# Altium footprint library PCB - LED - Everlight 1414_3535.PCBLIB: 1 footprints
Each footprint in its own frame and in the unit in brackets; x right, y up, seen from the top. Pads: shape width x height; smd on the part's side, far side on the other; paste and mask are expansions set on the pad; w line width, h text height; cw(c..) or ccw(c..) is an arc to the next point about the centre after c.
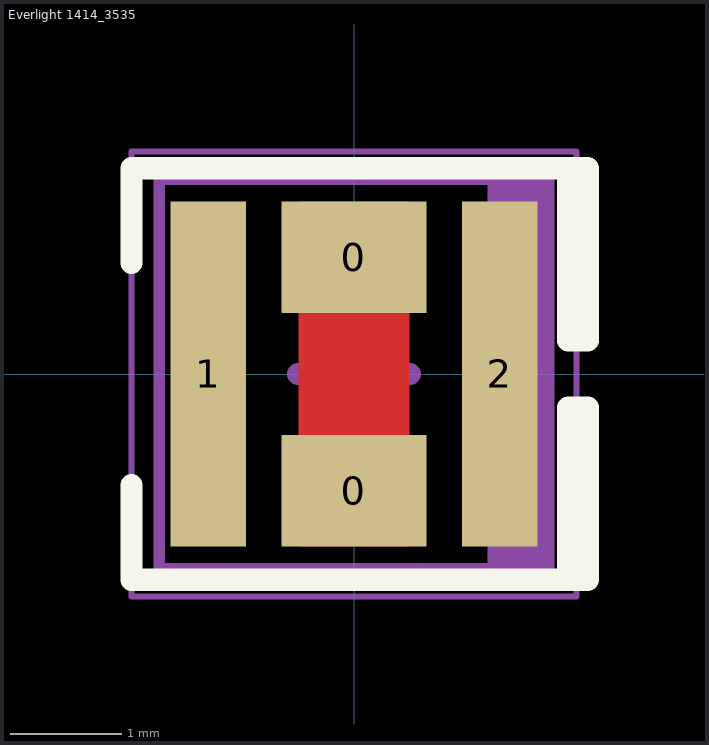
[diagram p0: the footprint, top view; thin cyan lines are the x and y axes]

## Everlight 1414_3535 [mm] "1414 (3535 Metric), 2-Leads, Body 3.5x3.5mm"
height 3.51
pads (4):
  rect 1.3x1 smd mask+0: 0(0,-1.05) 0(0,1.05)
  rect 0.68x3.1 smd mask+0: 1(-1.31,0)
  rect 0.68x3.1 smd paste+0 mask+0: 2(1.31,0)
Top Layer:
  rectangle: -0.5,-1.55 0.5,1.55
Top Overlay:
  lines w0.2: -2,-1 -2,-1.85 2.1,-1.85 2.1,-0.3 1.926,-0.3 1.926,-1.8 ; -2,1 -2,1.85 2.1,1.85 2.1,0.3 1.926,0.3 1.926,1.8
Top Solder:
  region: -0.95,1.65 -1.75,1.65 -1.75,-1.65 -0.95,-1.65
  rectangle: 0.95,-1.65 1.75,1.65
  rectangle: -0.75,-1.65 0.75,1.65
Mechanical 13:
  region: 1.75,1.75 1.2,1.75 1.2,-1.75 1.75,-1.75
  lines w0.1: -1.75,-1.75 1.75,-1.75 1.75,1.75 -1.75,1.75 -1.75,-1.75
Mechanical 15:
  lines w0.05: -2,-2 -2,2 2,2 2,-2 -2,-2
Mechanical 2 (Mech9):
  lines w0.2: -0.5,0 0.5,0 ; 0,-0.5 0,0.5
3D body "Everlight - 1414_3535 LENS.step": height 3.51, standoff 0.45, extent -1.75,-1.75 1.75,1.75
3D body "Everlight - 1414_3535 BODY.step": height 0.48, standoff 0, extent -1.75,-1.75 1.75,1.75